# Altium schematic symbol library IC.SchLib: 48 symbols (part 3 of 3)
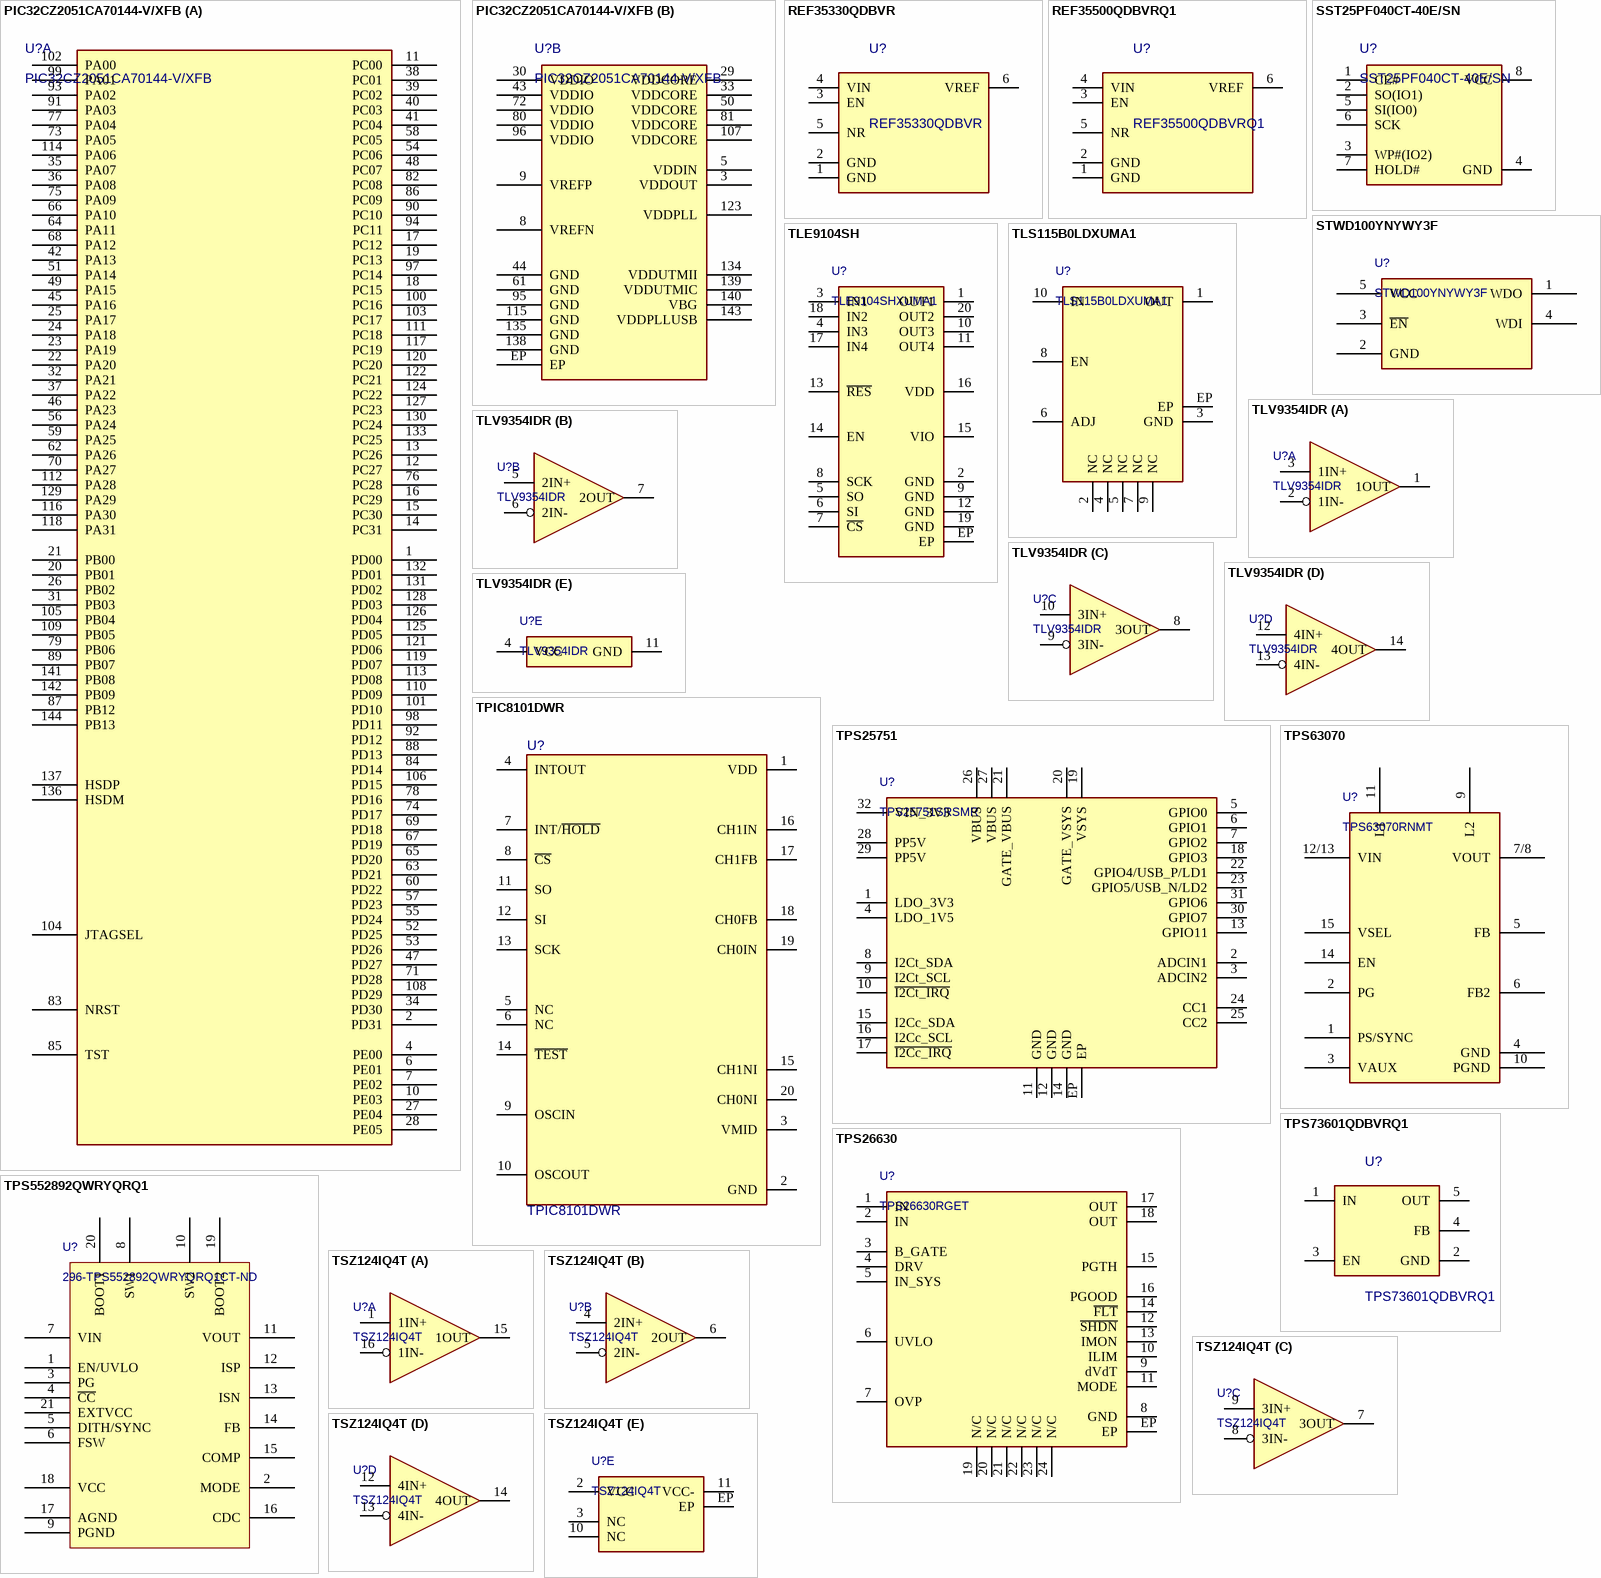
[diagram p7: symbols PIC32CZ2051CA70144-V/XFB to TSZ124IQ4T]

## TPS26630
designator U?, comment TPS26630RGET
Power Limiting Surge Protection Industrial eFuse 6A 4.5V to 60V 24-Pin VQFN T/R; Manufacturer: Texas Instruments; Manufacturer Lifecycle Status: ACTIVE; Max Junction Temperature (Tj): 125°C; Nominal Supply Current: 1.38mA; Number of Outputs: 1; Supplier 1: DigiKey; Supplier Part Number 1: 296-TPS26630RGETCT-ND; Supplier: DigiKey; Supplier Part Number: 296-TPS26630RGETCT-ND; Manufacturer Part Number: TPS26630RGET; RoHS: Compliant; Category: Power Management ICs; Stock: 2430; Pricing: 1=4,29, 10=3,249, 25=2,9892, 100=2,7038 (USD); Case/Package: VQFN; Height: 1mm; Length: 4mm; Lifecycle Status: Production; Max Operating Temperature: 125°C; Max Supply Voltage: 60V; Min Operating Temperature: -40°C; Min Supply Voltage: 4.5V; Pins: 24; Schedule B: 8542390000, 8542390000|8542390000|8542390000|8542390000|8542390000; Thickness: 880µm; Width: 4mm; ComponentLink1URL: https://octopart.com:443/opatz8j6/c1?t=Zg3XTK410tyg2HukzQeSSUDOC0Du9DWnDXqRCcuSQtm421eJ6ula51JB5EHwXrROz-ryDKiwFWnYaCH1NbztxZROGyMjPiBBUHvTjyII0Il73WQu7E7Kxx8aIjIxwTnAywKSSBYUKVdQShqMFkRNNvecHQ10WvLYQuvPUU-Un86c0vX2_IwgK6fP5q5SeACoNdVSKa0qr_n3YcYIl9YSY7DyH-10rqSfVw1OFpatOWDKE_5ll4JqrZbzWG86-aerVnIN-Bt2v19TsXg4jOL0-JBoKiMSgHiIybfKHoRzT3RayfmPS2vJWF9KUDSZSO4i4Dvb6Xaq5A0uXwoL7MN7HiUOABsUZW5Y3uttu0xvnsqNKhvH4zFAFs8BBETfS5Of6q8lbA&src-supplier=Texas+Instruments; ComponentLink1Description: https://octopart.com:443/opatz8j6/c1?t=Zg3XTK410tyg2HukzQeSSUDOC0Du9DWnDXqRCcuSQtm421eJ6ula51JB5EHwXrROz-ryDKiwFWnYaCH1NbztxZROGyMjPiBBUHvTjyII0Il73WQu7E7Kxx8aIjIxwTnAywKSSBYUKVdQShqMFkRNNvecHQ10WvLYQuvPUU-Un86c0vX2_IwgK6fP5q5SeACoNdVSKa0qr_n3YcYIl9YSY7DyH-10rqSfVw1OFpatOWDKE_5ll4JqrZbzWG86-aerVnIN-Bt2v19TsXg4jOL0-JBoKiMSgHiIybfKHoRzT3RayfmPS2vJWF9KUDSZSO4i4Dvb6Xaq5A0uXwoL7MN7HiUOABsUZW5Y3uttu0xvnsqNKhvH4zFAFs8BBETfS5Of6q8lbA&src-supplier=Texas+Instruments; ComponentLink2URL: https://sigma.octopart.com:443/102096900/technical_drawing/Texas-Instruments-TPS26630RGET.pdf?src-supplier=Texas+Instruments; ComponentLink2Description: https://sigma.octopart.com:443/102096900/technical_drawing/Texas-Instruments-TPS26630RGET.pdf?src-supplier=Texas+Instruments; ComponentLink3URL: https://datasheet.octopart.com:443/TPS26630RGET-Texas-Instruments-datasheet-148393552.pdf?src-supplier=Upverter; ComponentLink3Description: https://datasheet.octopart.com:443/TPS26630RGET-Texas-Instruments-datasheet-148393552.pdf?src-supplier=Upverter; ComponentLink4URL: https://datasheet.octopart.com:443/TPS26630RGET-Texas-Instruments-datasheet-164420235.pdf?src-supplier=SHENGYU+ELECTRONICS; ComponentLink4Description: https://datasheet.octopart.com:443/TPS26630RGET-Texas-Instruments-datasheet-164420235.pdf?src-supplier=SHENGYU+ELECTRONICS; ComponentLink5URL: http://sigma.octopart.com:80/reach_statement/Texas-Instruments-company-64.pdf?src-supplier=Compliance+Statements; ComponentLink5Description: http://sigma.octopart.com:80/reach_statement/Texas-Instruments-company-64.pdf?src-supplier=Compliance+Statements; ComponentLink6URL: http://sigma.octopart.com:80/conflict_mineral_statement/Texas-Instruments-company-63.pdf?src-supplier=Compliance+Statements; ComponentLink6Description: http://sigma.octopart.com:80/conflict_mineral_statement/Texas-Instruments-company-63.pdf?src-supplier=Compliance+Statements
footprint VQFN24 (VQFN, 16-Leads, Body 4x4mm)
pins: 1 IN, 2 IN, 3 B_GATE, 4 DRV, 5 IN_SYS, 6 UVLO, 7 OVP, 8 GND, 9 dVdT, 10 ILIM, 11 MODE, 12 ~{SHDN}, 13 IMON, 14 ~{FLT}, 15 PGTH, 16 PGOOD, 17 OUT, 18 OUT, 19 N/C, 20 N/C, 21 N/C, 22 N/C, 23 N/C, 24 N/C, EP

## TPS63070
designator U?, comment TPS63070RNMT
Wide input voltage (2V-16V) buck-boost converter 15-VQFN-HR -40 to 125; Manufacturer: Texas Instruments; Manufacturer Lifecycle Status: ACTIVE; Max Duty Cycle: 100%; Max Supply Voltage: 16V; Max Junction Temperature (Tj): 125°C; Max Output Voltage: 9V; Min Input Voltage: 2V; Min Output Voltage: 2.5V; Number of Outputs: 1; Output Current: 2A; Quiescent Current: 50µA; Switching Frequency: 2.4MHz; Supplier 1: DigiKey; Supplier Part Number 1: 296-44764-1-ND; Supplier: DigiKey; Supplier Part Number: 296-44764-1-ND; Manufacturer Part Number: TPS63070RNMT; RoHS: Compliant; Category: Voltage Regulators - Switching; Stock: 5312; Pricing: 1=3,53, 10=2,659, 25=2,4404, 100=2,2002 (USD); Height: 1mm; Lead Free: Lead Free; Length: 3mm; Lifecycle Status: Production; Max Operating Temperature: 125°C; Min Operating Temperature: -40°C; Min Supply Voltage: 2V; Pins: 15; Output Voltage: 2.5V; Packaging: Cut Tape; REACH SVHC: No; Schedule B: 8542390000, 8542390000|8542390000|8542390000|8542390000|8542390000; Thickness: 900µm; Topology: Buck-Boost; Width: 2.5mm; ComponentLink1URL: https://octopart.com:443/opatz8j6/c1?t=x8jQSxLy0dmw8UKfxefWCcxHnySSVJmQc_pBsvMPfzQfCKHfJdlg0dnjeEjVCFbmNnB2SQz67_XqBf_-dwEjLZpecXlSdouMy_C-ZSO6e-c2cJiCpYStpgtclWa9J7t6VRl7f7L8hfbgTfuzKUFzReoDHQzV4pbg13-mM7s_adYKptQZ49G_yxBQfrpu4LB13liiBXPU-N6zCIabTEyMI3cJnbXZavKtdeRTPGKKoOSp1lBO5nUg-UpDVDC_Z7VAhM8i0J_XMt2_rcqvqwRtOyl1DnBoVXEBabGIV5OoK-UuPEDYNZFQ9DACPMpO5HZNac0GKzADCHLz1NFSSD5cEiNO4orrsQtDIBIZhABOcM7Bb-yLccfE1e6tDjzRT5wFH9mXqEQ&src-supplier=Texas+Instruments; ComponentLink1Description: https://octopart.com:443/opatz8j6/c1?t=x8jQSxLy0dmw8UKfxefWCcxHnySSVJmQc_pBsvMPfzQfCKHfJdlg0dnjeEjVCFbmNnB2SQz67_XqBf_-dwEjLZpecXlSdouMy_C-ZSO6e-c2cJiCpYStpgtclWa9J7t6VRl7f7L8hfbgTfuzKUFzReoDHQzV4pbg13-mM7s_adYKptQZ49G_yxBQfrpu4LB13liiBXPU-N6zCIabTEyMI3cJnbXZavKtdeRTPGKKoOSp1lBO5nUg-UpDVDC_Z7VAhM8i0J_XMt2_rcqvqwRtOyl1DnBoVXEBabGIV5OoK-UuPEDYNZFQ9DACPMpO5HZNac0GKzADCHLz1NFSSD5cEiNO4orrsQtDIBIZhABOcM7Bb-yLccfE1e6tDjzRT5wFH9mXqEQ&src-supplier=Texas+Instruments; ComponentLink2URL: https://datasheet.octopart.com:443/TPS63070RNMT-Texas-Instruments-datasheet-99731598.pdf?src-supplier=Newark; ComponentLink2Description: https://datasheet.octopart.com:443/TPS63070RNMT-Texas-Instruments-datasheet-99731598.pdf?src-supplier=Newark; ComponentLink3URL: https://datasheet.octopart.com:443/TPS63070RNMT-Texas-Instruments-datasheet-81454394.pdf?src-supplier=Farnell; ComponentLink3Description: https://datasheet.octopart.com:443/TPS63070RNMT-Texas-Instruments-datasheet-81454394.pdf?src-supplier=Farnell; ComponentLink4URL: https://datasheet.octopart.com:443/TPS63070RNMT-Texas-Instruments-datasheet-67294913.pdf?src-supplier=element14+APAC; ComponentLink4Description: https://datasheet.octopart.com:443/TPS63070RNMT-Texas-Instruments-datasheet-67294913.pdf?src-supplier=element14+APAC; ComponentLink5URL: https://datasheet.octopart.com:443/TPS63070RNMT-Texas-Instruments-datasheet-159118225.pdf?src-supplier=LCSC; ComponentLink5Description: https://datasheet.octopart.com:443/TPS63070RNMT-Texas-Instruments-datasheet-159118225.pdf?src-supplier=LCSC; ComponentLink6URL: https://datasheet.octopart.com:443/TPS63070RNMT-Texas-Instruments-datasheet-140571939.pdf?src-supplier=Arrow.cn; ComponentLink6Description: https://datasheet.octopart.com:443/TPS63070RNMT-Texas-Instruments-datasheet-140571939.pdf?src-supplier=Arrow.cn; ComponentLink7URL: http://sigma.octopart.com:80/reach_statement/Texas-Instruments-company-64.pdf?src-supplier=Compliance+Statements; ComponentLink7Description: http://sigma.octopart.com:80/reach_statement/Texas-Instruments-company-64.pdf?src-supplier=Compliance+Statements; ComponentLink8URL: http://sigma.octopart.com:80/conflict_mineral_statement/Texas-Instruments-company-63.pdf?src-supplier=Compliance+Statements; ComponentLink8Description: http://sigma.octopart.com:80/conflict_mineral_statement/Texas-Instruments-company-63.pdf?src-supplier=Compliance+Statements
footprint VQFN15-HR (VQFN, 32-Leads, Body 2.5x3mm)
pins: 1 PS/SYNC, 2 PG, 3 VAUX, 4 GND, 5 FB, 6 FB2, 7/8 VOUT, 9 L2, 10 PGND, 11 L1, 12/13 VIN, 14 EN, 15 VSEL

## TPS73601QDBVRQ1
designator U?
LDO Regulator Pos 1.2V to 5.5V 0.4A Automotive 5-Pin SOT-23 T/R; Manufacturer: Texas Instruments; Manufacturer Lifecycle Status: ACTIVE; Accuracy: 1%; Dropout Voltage: 75mV; Max Output current: 400mA; Min Input Voltage: 1.7V; Number of Channels: 1; Output Type: Adjustable; Output Voltage Accuracy: 0.5%; Polarity: Positive; Quiescent Current: 300µA; Reference Voltage: 1.21V; Supplier 1: DigiKey; Supplier Part Number 1: 296-36845-1-ND; Supplier: DigiKey; Supplier Part Number: 296-36845-1-ND; Manufacturer Part Number: TPS73601QDBVRQ1; RoHS: Compliant; Category: LDO Voltage Regulators; Stock: 1826; Pricing: 1=2,89, 10=2,162, 25=1,9796, 100=1,7787, 250=1,68292, 500=1,62514, 1000=1,57759 (USD); Case/Package: SOT-23; Height: 1.45mm; Lead Free: Lead Free; Length: 2.9mm; Lifecycle Status: Production; Max Supply Voltage: 5.5V; Max Operating Temperature: 125°C; Max Output Voltage: 5.5V; Min Current Limit: 400mA; Min Operating Temperature: -40°C; Min Output Voltage: 1.2V; Number of Outputs: 1; Pins: 5; Number of Regulators: 1; Output Current: 400mA; Output Voltage: 5.5V; Packaging: Tape & Reel (TR); Radiation Hardening: No; Schedule B: 8542390000, 8542390000|8542390000|8542390000|8542390000|8542390000; Thickness: 1.2mm; Width: 1.6mm; ComponentLink1URL: https://sigma.octopart.com:443/177332311/technical_drawing/Texas-Instruments-TPS73601QDBVRQ1.pdf?src-supplier=Texas+Instruments; ComponentLink1Description: https://sigma.octopart.com:443/177332311/technical_drawing/Texas-Instruments-TPS73601QDBVRQ1.pdf?src-supplier=Texas+Instruments; ComponentLink2URL: https://octopart.com:443/opatz8j6/c1?t=IPrLS5GnXoEhlKIvtz8vMG7ybou4TW2YvgMpBNrA_XBAhXlKJ-zrlmMbTVttzpWN-kqJ0DoX4txIr-Aqzkx3XvKiTK9d7kplguMBUdBIgm-NC267quZrn1VNg12e0js8AT9Thc0GdTQDeFxHjO53u7kxM-RecPAvu05OmE9vMtDNG2p0jb4G6ceVO9_xYMpnSLp2EBQUC0MHOQO7NdqUr0_rllB7A0v-msh2wo99UWH-MCiJBTDrc9MeGvSxMuI3ivzzdCUtcAEoqCJ6K_E3PCyiy3lHf4XnvCOe_V8wTR0vzEiaJ2Yj43P2j64f32HLNWJ6_xf2cIxiYR0V7iX4t-HR5d5P2vTD5auGjySQBTSJVx_vKiry_PGPB71sg50onbc4Tboe&src-supplier=Texas+Instruments; ComponentLink2Description: https://octopart.com:443/opatz8j6/c1?t=IPrLS5GnXoEhlKIvtz8vMG7ybou4TW2YvgMpBNrA_XBAhXlKJ-zrlmMbTVttzpWN-kqJ0DoX4txIr-Aqzkx3XvKiTK9d7kplguMBUdBIgm-NC267quZrn1VNg12e0js8AT9Thc0GdTQDeFxHjO53u7kxM-RecPAvu05OmE9vMtDNG2p0jb4G6ceVO9_xYMpnSLp2EBQUC0MHOQO7NdqUr0_rllB7A0v-msh2wo99UWH-MCiJBTDrc9MeGvSxMuI3ivzzdCUtcAEoqCJ6K_E3PCyiy3lHf4XnvCOe_V8wTR0vzEiaJ2Yj43P2j64f32HLNWJ6_xf2cIxiYR0V7iX4t-HR5d5P2vTD5auGjySQBTSJVx_vKiry_PGPB71sg50onbc4Tboe&src-supplier=Texas+Instruments; ComponentLink3URL: https://sigma.octopart.com:443/175570406/technical_drawing/Texas-Instruments-TPS73601QDBVRQ1.pdf?src-supplier=Texas+Instruments; ComponentLink3Description: https://sigma.octopart.com:443/175570406/technical_drawing/Texas-Instruments-TPS73601QDBVRQ1.pdf?src-supplier=Texas+Instruments; ComponentLink4URL: https://sigma.octopart.com:443/169406034/technical_drawing/Texas-Instruments-TPS73601QDBVRQ1.pdf?src-supplier=Texas+Instruments; ComponentLink4Description: https://sigma.octopart.com:443/169406034/technical_drawing/Texas-Instruments-TPS73601QDBVRQ1.pdf?src-supplier=Texas+Instruments; ComponentLink5URL: https://sigma.octopart.com:443/155939316/technical_drawing/Texas-Instruments-TPS73601QDBVRQ1.pdf?src-supplier=Texas+Instruments; ComponentLink5Description: https://sigma.octopart.com:443/155939316/technical_drawing/Texas-Instruments-TPS73601QDBVRQ1.pdf?src-supplier=Texas+Instruments; ComponentLink6URL: https://sigma.octopart.com:443/102331370/technical_drawing/Texas-Instruments-TPS73601QDBVRQ1.pdf?src-supplier=Texas+Instruments; ComponentLink6Description: https://sigma.octopart.com:443/102331370/technical_drawing/Texas-Instruments-TPS73601QDBVRQ1.pdf?src-supplier=Texas+Instruments; ComponentLink7URL: https://datasheet.octopart.com:443/TPS73601QDBVRQ1-Texas-Instruments-datasheet-41218817.pdf?src-supplier=Texas+Instruments; ComponentLink7Description: https://datasheet.octopart.com:443/TPS73601QDBVRQ1-Texas-Instruments-datasheet-41218817.pdf?src-supplier=Texas+Instruments; ComponentLink8URL: https://sigma.octopart.com:443/49249325/technical_drawing/Texas-Instruments-TPS73601QDBVRQ1.pdf?src-supplier=Texas+Instruments; ComponentLink8Description: https://sigma.octopart.com:443/49249325/technical_drawing/Texas-Instruments-TPS73601QDBVRQ1.pdf?src-supplier=Texas+Instruments; ComponentLink9URL: https://datasheet.octopart.com:443/TPS73601QDBVRQ1-Texas-Instruments-datasheet-163782275.pdf?src-supplier=Augswan; ComponentLink9Description: https://datasheet.octopart.com:443/TPS73601QDBVRQ1-Texas-Instruments-datasheet-163782275.pdf?src-supplier=Augswan; ComponentLink10URL: http://sigma.octopart.com:80/reach_statement/Texas-Instruments-company-64.pdf?src-supplier=Compliance+Statements; ComponentLink10Description: http://sigma.octopart.com:80/reach_statement/Texas-Instruments-company-64.pdf?src-supplier=Compliance+Statements; ComponentLink11URL: http://sigma.octopart.com:80/conflict_mineral_statement/Texas-Instruments-company-63.pdf?src-supplier=Compliance+Statements; ComponentLink11Description: http://sigma.octopart.com:80/conflict_mineral_statement/Texas-Instruments-company-63.pdf?src-supplier=Compliance+Statements
footprint SOT-23-5 (5-Pin, Small Outline Transistor  Plastic Package (SOT23))
pins: 1 IN, 2 GND, 3 EN, 4 FB, 5 OUT

## TPS552892QWRYQRQ1
designator U?, comment 296-TPS552892QWRYQRQ1CT-ND
IC REG BUCK BOOST ADJ 8A 21VQFN; Manufacturer: Texas Instruments; Topology: 6153TopologyType; Supplier: Digikey; Supplier Part Number: 296-TPS552892QWRYQRQ1CT-ND; Manufacturer Part Number: TPS552892QWRYQRQ1; RoHS: No; Pricing: 1=6,57, 10=5,055, 25=4,6752, 100=4,2584, 250=4,0596, 500=3,93982, 1000=3,84122, 3000=3,71945 (USD); Pins: 21NUMBER; Length: 5mm; Width: 3mm; Thickness: 900um; Supplier 1: Digikey; Supplier Part Number 1: 296-TPS552892QWRYQRQ1CT-ND
footprint TPS552892 (PLASTIC QUAD FLATPACK - NO LEAD / 3 x 5mm, 0.5mm pitch)
pins: 1 EN/UVLO, 2 MODE, 3 PG, 4 ~{CC}, 5 DITH/SYNC, 6 FSW, 7 VIN, 8 SW1, 9 PGND, 10 SW2, 11 VOUT, 12 ISP, 13 ISN, 14 FB, 15 COMP, 16 CDC, 17 AGND, 18 VCC, 19 BOOT2, 20 BOOT1, 21 EXTVCC

## TSZ124IQ4T
designator U?
TSZ124 Series 5.5V 400 kHz Rail to Rail SMT Operational Amplifier - TSSOP-14; Manufacturer: STMicroelectronics; Bandwidth: 400kHz; Common Mode Rejection Ratio: 115dB; Input Bias Current: 200pA; Input Offset Voltage (Vos): 8µV; Max Supply Current: 40µA; Max Supply Voltage: 6V; Min Supply Voltage: 1.8V; Nominal Supply Current: 31µA; Number of Channels: 4; Operating Supply Voltage: 3.3V; Output Current: 17mA; Output Current per Channel: 18mA; Slew Rate: 0.19V/µs; Voltage Gain: 135dB; Supplier 1: DigiKey; Supplier Part Number 1: 497-14337-1-ND; Supplier: DigiKey; Supplier Part Number: 497-14337-1-ND; Manufacturer Part Number: TSZ124IQ4T; RoHS: Compliant; Category: Amplifiers - Op Amps, Buffer, Instrumentation; Stock: 10565; Pricing: 1=1,86, 10=1,367, 25=1,2444, 100=1,1092, 250=1,0448, 500=1,00596, 1000=0,97398 (USD); Case/Package: QFN; China RoHS: Compliant; Gain Bandwidth Product: 400kHz; Height - Seated (Max): 1mm; Length: 3mm; Lifecycle Status: Production; Max Operating Temperature: 125°C; Min Operating Temperature: -40°C; Mounting Technology: Surface Mount; Number of Circuits: 4; Pins: 16; Number of Terminals: 4; Operating Supply Current: 31µA; Packaging: Tape and Reel; REACH SVHC: Yes; Schedule B: 8542330000, 8542330000|8542330000|8542330000|8542330000|8542330000; Terminal Pitch: 500µm; Unity Gain Bandwidth Product: 400kHz; Width: 3mm; ComponentLink1URL: https://datasheet.octopart.com:443/TSZ124IQ4T-STMicroelectronics-datasheet-62337710.pdf?src-supplier=Future+Electronics; ComponentLink1Description: https://datasheet.octopart.com:443/TSZ124IQ4T-STMicroelectronics-datasheet-62337710.pdf?src-supplier=Future+Electronics; ComponentLink2URL: https://datasheet.octopart.com:443/TSZ124IQ4T-STMicroelectronics-datasheet-16350222.pdf?src-supplier=STMicroelectronics; ComponentLink2Description: https://datasheet.octopart.com:443/TSZ124IQ4T-STMicroelectronics-datasheet-16350222.pdf?src-supplier=STMicroelectronics; ComponentLink3URL: https://datasheet.octopart.com:443/TSZ124IQ4T-STMicroelectronics-datasheet-140259870.pdf?src-supplier=Farnell; ComponentLink3Description: https://datasheet.octopart.com:443/TSZ124IQ4T-STMicroelectronics-datasheet-140259870.pdf?src-supplier=Farnell; ComponentLink4URL: https://datasheet.octopart.com:443/TSZ124IQ4T-STMicroelectronics-datasheet-159009515.pdf?src-supplier=SHENGYU+ELECTRONICS; ComponentLink4Description: https://datasheet.octopart.com:443/TSZ124IQ4T-STMicroelectronics-datasheet-159009515.pdf?src-supplier=SHENGYU+ELECTRONICS; ComponentLink5URL: https://datasheet.octopart.com:443/TSZ124IQ4T-STMicroelectronics-datasheet-165583692.pdf?src-supplier=TME; ComponentLink5Description: https://datasheet.octopart.com:443/TSZ124IQ4T-STMicroelectronics-datasheet-165583692.pdf?src-supplier=TME
footprint VQFN16 (VQFN, 16-Leads, Body 3.5x3.5mm)
part A pins: 1 1IN+, 15 1OUT, 16 1IN-
part B pins: 4 2IN+, 5 2IN-, 6 2OUT
part C pins: 7 3OUT, 8 3IN-, 9 3IN+
part D pins: 12 4IN+, 13 4IN-, 14 4OUT
part E pins: 2 VCC (power), 3 NC (power), 10 NC (power), 11 VCC- (power), EP (power)